# EAGLE library part REGULATOR:LT1172(BUCK,BOOST,INT-SW) (library QuantumOptics)
LT1172, Linear Tech switching converter, buck/boost, int switch, SO-8 (LT1172) and others. See also LT1170-1 for other packages and currents. http://www.linear.com/pc/downloadDocument.do?navId=H0,C1,C1003,C1042,C1031,P1316,D1814
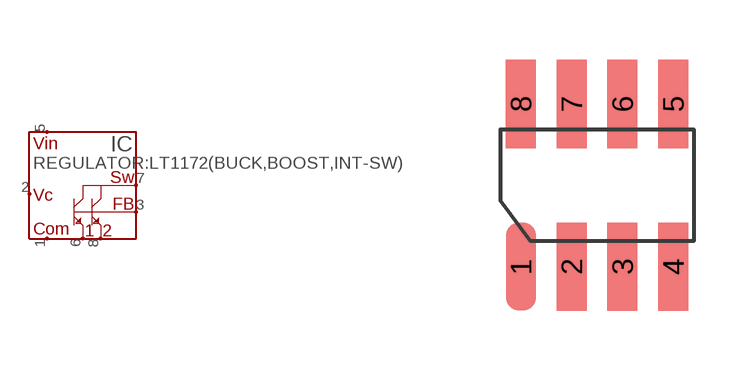
[diagram p68: symbol with the pads of SOIC-8; footprint SOIC-8]

Designator prefix IC

## REGULATOR:LT1172(BUCK,BOOST,INT-SW)  [SOIC-8]
1  COM
2  VC
3  FB
5  VIN
6  E1
7  SW
8  E2

## Footprint SOIC-8 (pad centres in mm)
SOIC-8 (AKA SO-8), pads on 0.050" grid.
smd 0.75 x 2.2: 1 -1.905,-2.032; 2 -0.635,-2.032; 3 0.635,-2.032; 4 1.905,-2.032; 5 1.905,2.032; 6 0.635,2.032; 7 -0.635,2.032; 8 -1.905,2.032